# EAGLE library part BLUETOOTH_MODULE_HC-05 (library Inventory)
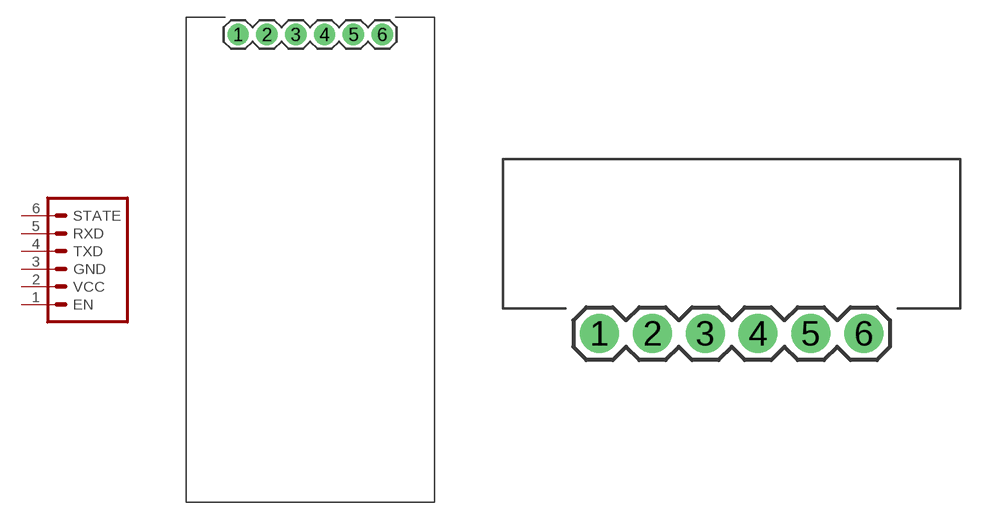
[diagram p0: symbol with the pads of BLUETOOTH_MODULE_HC-05(FLAT); footprints BLUETOOTH_MODULE_HC-05(FLAT), BLUETOOTH_MODULE_HC-05(STANDING)]

Designator prefix -

## BLUETOOTH_MODULE_HC-05FLAT  [BLUETOOTH_MODULE_HC-05(FLAT)]
1  EN  in
2  VCC  pwr
3  GND  sup
4  TXD  out
5  RXD  in
6  STATE  out

## BLUETOOTH_MODULE_HC-05STANDING  [BLUETOOTH_MODULE_HC-05(STANDING)]
Pads as for BLUETOOTH_MODULE_HC-05(FLAT)

## Footprint BLUETOOTH_MODULE_HC-05(FLAT) (pad centres in mm)
HC-05 Bluetooth Module Pins from left to right: State Receiver Transceiver Ground Power (3.6V to 6V) Enable The "State" pin tells whether the module is connected to the target device or not. The "Enable" pin allows you to change settings of the device. The rest is pretty self explanatory.
drill 1.016 pad 1.88: 1 -6.35,-0.54; 2 -3.81,-0.54; 3 -1.27,-0.54; 4 1.27,-0.54; 5 3.81,-0.54; 6 6.35,-0.54

## Footprint BLUETOOTH_MODULE_HC-05(STANDING) (pad centres in mm)
HC-05 Bluetooth Module Pins from left to right: State Receiver Transceiver Ground Power (3.6V to 6V) Enable The "State" pin tells whether the module is connected to the target device or not. The "Enable" pin allows you to change settings of the device. The rest is pretty self explanatory.
drill 1.016 pad 1.88: 1 -6.35,-1.2; 2 -3.81,-1.2; 3 -1.27,-1.2; 4 1.27,-1.2; 5 3.81,-1.2; 6 6.35,-1.2